# Altium schematic symbol library eUSR_SchLibrary - Optoisolators.SchLib: 4 symbols
Pins are listed as number, name and electrical type; pins without a type are passive.

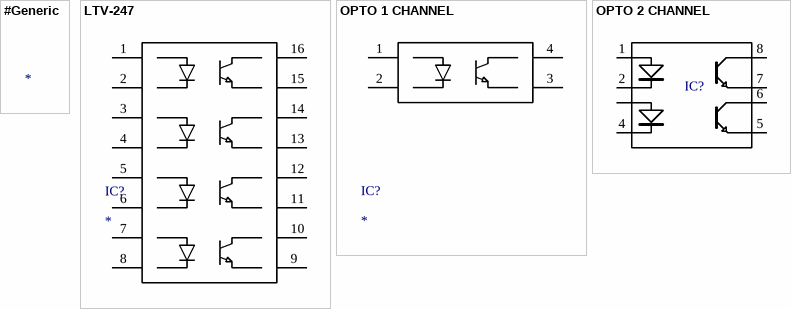
[diagram p0: symbols #Generic to OPTO 2 CHANNEL]

## #Generic
designator ?
Manufacturing: #####; Value: #####; Package: #####; Price: #####; PN: #####; ComponentLink1Description: Datasheet; ComponentLink1URL: #####; ComponentLink2Description: Distributor Link; ComponentLink2URL: #####; Distributor: #####; Distributor PN: #####

## LTV-247
designator IC?
ComponentLink1Description: Datasheet; ComponentLink1URL: *; ComponentLink2Description: Distributor Link; ComponentLink2URL: *
pins: 1 A_1, 2 K_1, 3 A_2, 4 K_2, 5 A_3, 6 K_3, 7 A_4, 8 K_4, 9 E_4, 10 C_4, 11 E_3, 12 C_3, 13 E_2, 14 C_2, 15 E_1, 16 C_1

## OPTO 1 CHANNEL
designator IC?
ComponentLink1Description: Datasheet; ComponentLink1URL: *; ComponentLink2Description: Distributor Link; ComponentLink2URL: *
pins: 1 A_1, 2 K_1, 3 E_1, 4 C_1

## OPTO 2 CHANNEL
designator IC?  (value not drawn)
ComponentLink1Description: Datasheet; ComponentLink1URL: *; ComponentLink2Description: Distributor Link; ComponentLink2URL: *
pins: 1 "Anode", 2 "Cathode", 3 "Anode", 4 "Cathode", 5 "Emitter", 6 "Collector", 7 "Emitter", 8 "Collector"